# Altium schematic symbol library INA285AQDRQ1.Schlib: 1 symbol
Pins are listed as number, name and electrical type; pins without a type are passive.

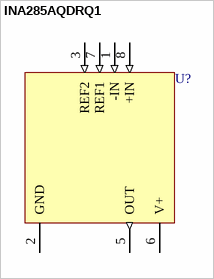
[diagram p0: symbol INA285AQDRQ1]

## INA285AQDRQ1
designator U?
pins: 1 -IN (in), 2 GND (power), 3 REF2 (in), 5 OUT (out), 6 V+ (power), 7 REF1 (in), 8 +IN (in)